# Altium footprint library SOCKET_CARD.PcbLib: 31 footprints (part 1 of 2)
Each footprint in its own frame and in the unit in brackets; x right, y up, seen from the top. Pads: shape width x height; smd on the part's side, far side on the other; paste and mask are expansions set on the pad; w line width, h text height; cw(c..) or ccw(c..) is an arc to the next point about the centre after c.
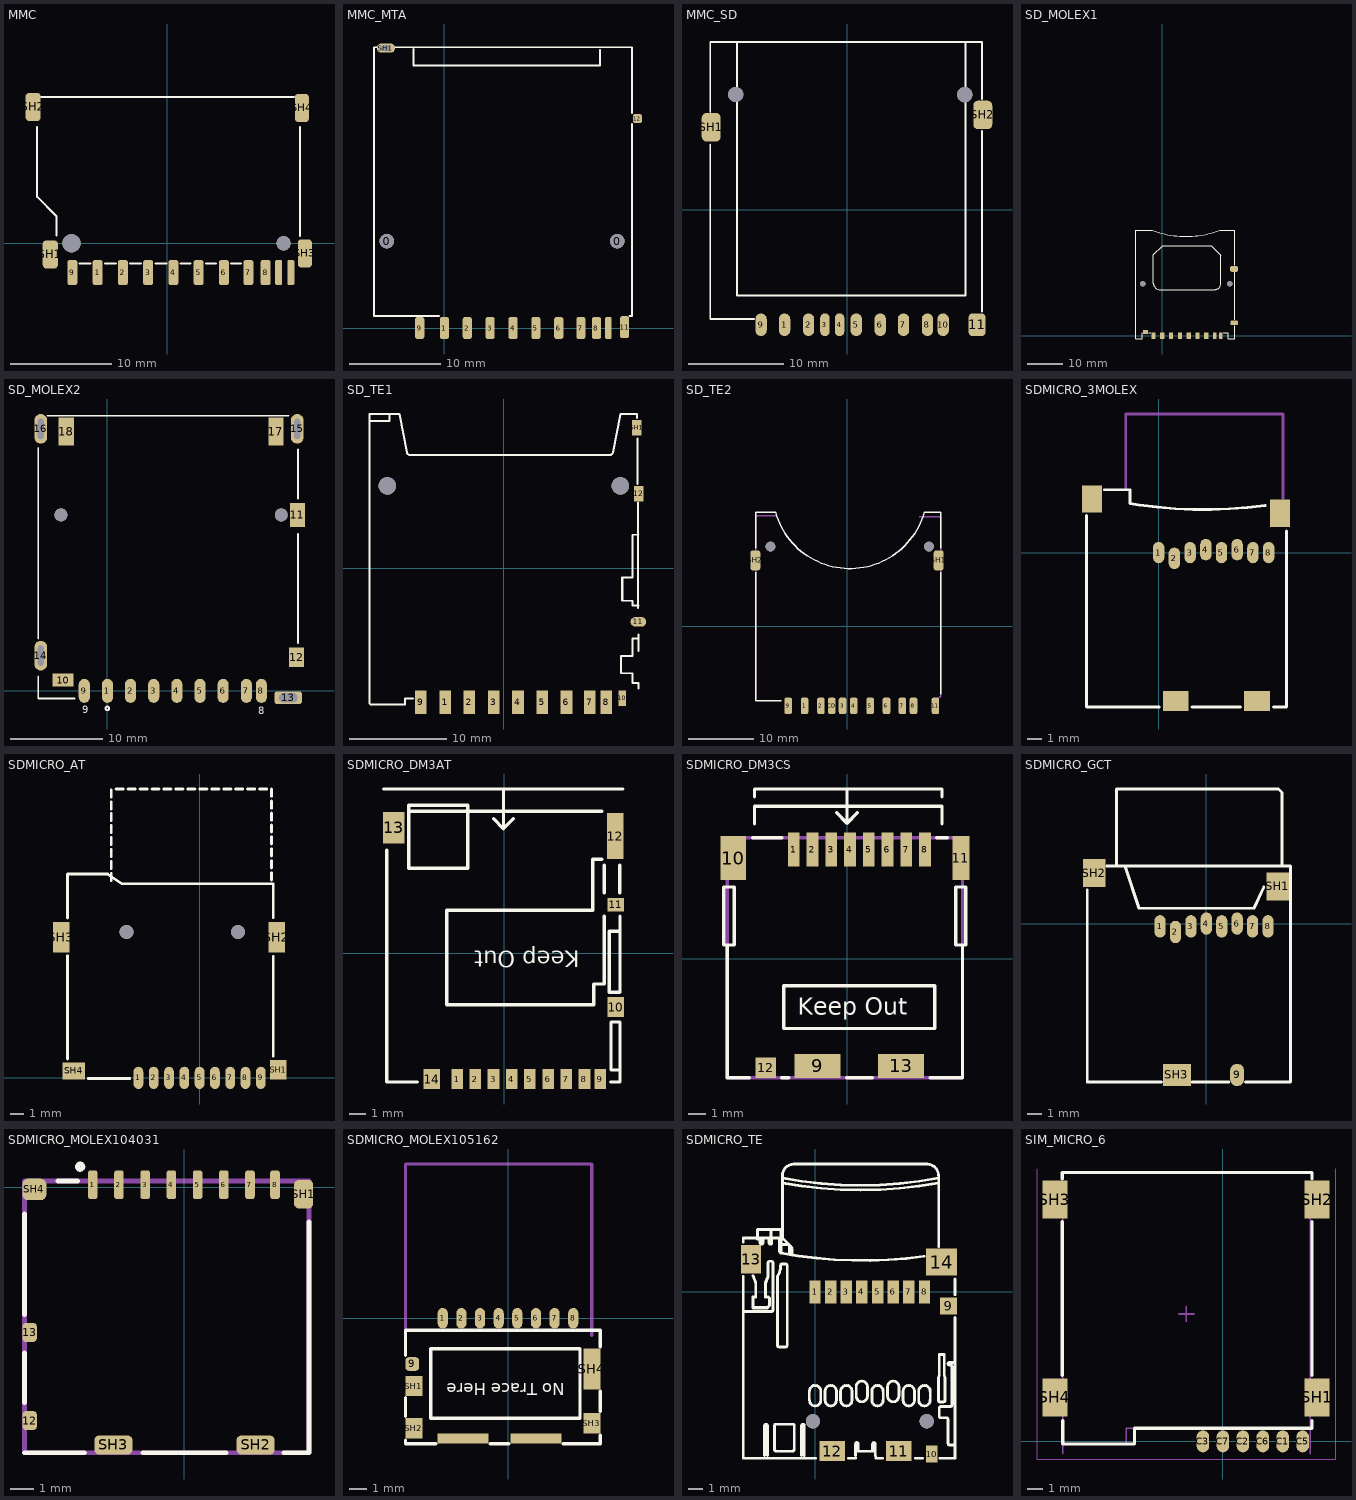
[diagram p0: the footprints below, top view; thin cyan lines are the x and y axes]

## MMC [mm]
height 2
pads (17):
  rrect50% 1x2.5 smd: 1(-6.915,-2.9) 2(-4.415,-2.9) 3(-1.915,-2.9) 4(0.585,-2.9) 5(3.085,-2.9) 6(5.585,-2.9) 7(8.01,-2.9) 8(9.71,-2.9) 9(-9.415,-2.9)
  rrect50% 0.7x2.5 smd: 10(11.01,-2.9) 11(12.21,-2.9)
  rrect50% 1.5x2.8 smd: SH1(-11.6,-1.1) SH2(-13.3,13.5)
  rrect50% 1.4x2.8 smd: SH3(13.6,-1) SH4(13.3,13.4)
  round 1.8 hole 1.8: ""(-9.5,0)
  round 1.4 hole 1.4 unplated: ""(11.5,0)
Top Overlay:
  lines w0.2: -12.9,11.506 -12.9,4.6 -11,2.7 -11,0.764 ; -12.5,14.5 12.5,14.5 ; -8.7,-2 -7.6,-2 ; -6.2,-2 -5.1,-2 ; -3.7,-2 -2.6,-2 ; -1.2,-2 -0.1,-2 ; 1.3,-2 2.3,-2 ; 3.8,-2 4.8,-2 ; 6.3,-2 7.3,-2 ; 13.1,0.711 13.1,11.506
3D body "SD card.stp": height 2.23, standoff 0.13, extent -11.8,1 12.2,33
3D body "693063020911.stp": height 2.95, standoff -0.6, extent -13.39,-3.285 13.61,14.465

## MMC_MTA [mm] "SD/MMC Morethanall SDC-W25PB-09"
pads (15):
  round 1.6 hole 1.6 unplated: 0(-6.3,9.5) 0(18.9,9.5)
  rrect50% 1x2.4 smd: 1(0,0) 2(2.5,0) 3(5,0) 4(7.5,0) 5(10,0) 6(12.5,0) 7(14.925,0) 8(16.625,0) 9(-2.7,0) 11(19.7,0.1)
  rrect50% 0.7x2.4 smd: 10(17.925,0)
  rrect50% 1x1 smd: 12(21.1,22.9)
  oval 2x1 hole 0.6 slot 1 at 0 deg: SH1(-6.4,30.6)
Top Overlay:
  lines w0.2: -3.4,30.5 -3.4,28.7 17,28.7 17,30.4 ; -0.6,1.3 -7.7,1.3 -7.7,30.7 20.5,30.7 20.5,23.5 ; 20.2,1.3 20.5,1.3 20.5,22.3
3D body "User Library-SDC-W25PB-09.step": height 3.1, standoff -0.7, extent -7.62,-0.471 21.229,30.629

## MMC_SD [mm]
pads (15):
  oval 1.2x2.4 smd: 1(-6.575,-12.1) 2(-4.05,-12.1) 5(0.975,-12.1) 6(3.5,-12.1) 7(5.95,-12.1) 8(8.475,-12.1) 9(-9.05,-12.1) 10(10.125,-12.1)
  oval 1x2.4 smd: 3(-2.325,-12.1) 4(-0.775,-12.1)
  rrect50% 1.8x2.4 smd: 11(13.7,-12.1)
  rrect50% 2x3 smd: SH1(-14.3,8.7) SH2(14.3,10)
  round 1.6 hole 1.6 unplated: ""(-11.725,12.163) ""(12.4,12.138)
Top Overlay:
  lines w0.2: -14.4,6.9 -14.4,-11.5 -9.8,-11.5 ; -14.4,10.3 -14.4,17.7 14.2,17.7 14.2,11.7 ; -11.6,17.7 -11.6,-9 12.5,-9 12.5,17.6 ; 14.2,-10.7 14.2,8.3
3D body "SD MMC.stp": height 2.9, standoff -0.7, extent -14.295,-12.621 14.155,17.629

## SD_MOLEX1 [mm] "2.50mm Pitch, SD Memory Card Connector, Standard-Mount, Ultra Low Profile, with  PCB Locator, without Mylar, molex 676008001"
height 2
pads (14):
  rect 1.2x1.8 smd: 1(0,0) 2(2.5,0) 3(5,0) 4(7.5,0) 5(10,0) 6(12.5,0) 9(-2.5,0)
  rect 1x1.8 smd: 7(14.92,0) 8(16.608,0)
  rect 1.4x1.2 smd: 10(-4.8,1.1)
  rrect50% 2.2x1.6 smd: 11(20.38,18.974)
  rrect50% 2.2x1.2 smd: 12(20.4,3.7)
  round 1.5 hole 1.5 unplated: ""(-5.52,14.774) ""(19.18,14.774)
Top Overlay:
  lines w0.2: -5.7,0.9 -5.7,-0.8 -7.5,-0.8 -7.5,29.9 -2.838,29.9 ccw(c6.739,56.211) 16.315,29.9 ; -3.9,0.9 -3.3,0.9 ; 16.446,29.9 20.6,29.9 20.6,20 ; 17.3,0.9 18.73,0.9 18.73,-0.8 20.63,-0.8 20.63,2.9 ; 20.6,4.5 20.6,18 ; -2.5,14.9 ccw(c-0.7,14.9) -0.7,13.1 14.8,13.1 ccw(c14.8,14.9) 16.6,14.9 16.6,22.9 13.9,25.6 0.1,25.6 -2.5,23 -2.5,14.9
3D body "User Library-676008001.STEP": height 3, standoff -0.3, extent -7.397,-0.733 20.903,29.767

## SD_MOLEX2 [mm] "MOLEX_SD_67840"
height 0.7
pads (20):
  oval 1.2x2.6 smd: 1(0,0) 2(2.5,0) 3(5,0) 4(7.5,0) 5(10,0) 6(12.5,0) 7(15,0) 8(16.625,0) 9(-2.5,0)
  rect 2.286x1.397 smd: 10(-4.782,1.155)
  rect 1.6x2.591 smd: 11(20.525,19.003)
  rect 1.6x2.108 smd: 12(20.425,3.625)
  rrect50% 3x1.4 hole 1 slot 2 at 0 deg: 13(19.525,-0.747)
  oval 1.4x3.2 hole 0.6 slot 2.2 at 90 deg: 14(-7.2,3.8) 15(20.5,28.3) 16(-7.2,28.3)
  rect 1.651x2.997 smd: 17(18.201,28) 18(-4.451,28)
  round 1.4 hole 1.4 unplated: " "(-5.025,19.003) " "(18.775,19.003)
Top Overlay:
  circle w0.2: c0,-1.9 r0.2
  lines w0.203: -7.476,1.583 -7.476,-0.83 -3.539,-0.83 ; -7.476,5.647 -7.476,26.221 ; -6.46,29.713 19.575,29.713 ; 20.591,5.164 20.591,16.95 ; 20.591,20.76 20.591,26.094
  text "9" at -2.7,-2.4 h0.8
  text "8" at 16.3,-2.5 h0.8
3D body "678408001.stp": height 4.57, standoff -1.28, extent -7.45,-0.7 20.85,29.8

## SD_TE1 [mm] "SD CARD SOCKET, Push/Push, Top Mount, With Locating Post, part_number: 2013357-1"
height 1.7
pads (15):
  rect 1.2x2.4 smd: 1(-6.05,-13.8) 2(-3.55,-13.8) 3(-1.05,-13.8) 4(1.45,-13.8) 5(3.95,-13.8) 6(6.45,-13.8) 7(8.85,-13.8) 8(10.55,-13.8) 9(-8.55,-13.8)
  rect 0.8x1.6 smd: 10(12.2,-13.4)
  oval 1.6x1 smd: 11(13.85,-5.5)
  rect 1x1.6 smd: 12(13.9,7.7) SH1(13.7,14.5)
  round 1.8 hole 1.8 unplated: ""(-12,8.5) ""(12,8.5)
Top Overlay:
  lines w0.2: -13.85,-13.9 -13.85,15.9 ; -13.745,-14 -10.185,-14 -10.185,-13.405 -9.35,-13.405 ; -13.745,15.195 -11.785,15.195 -11.785,15.795 ; -13.745,15.9 -11.72,15.9 -10.845,15.9 ; -10.745,15.9 -9.995,11.939 -9.958,11.841 -9.892,11.764 -9.803,11.713 -9.7,11.695 ; -9.8,11.695 11.05,11.695 ; 10.95,11.695 11.053,11.713 11.142,11.764 11.208,11.841 11.245,11.939 11.995,15.9 ; 12.095,15.9 13.7,15.9 13.7,15.5 ; 12.21,-3.335 12.21,-0.935 ; 13.75,8.7 13.75,13.4 ; 13.8,-4.1 13.8,6.8 ; 13.85,-12.395 13.85,-11.805 ; 13.85,-8.505 13.85,-6.8 ; 13.855,-11.805 13.255,-11.805 13.255,-10.805 12.075,-10.805 12.075,-9.035 13.255,-9.035 13.255,-7.235 13.855,-7.235 ; 13.855,-3.835 13.255,-3.835 13.255,-3.335 12.175,-3.335 12.175,-0.935 13.255,-0.935 13.255,3.465 13.855,3.465
3D body "c-2013357-1-a-3d.stp": height 2.84, standoff -0.51, extent -13.74,-13.9 13.94,15.8

## SD_TE2 [mm] "TE 1734472"
pads (15):
  rrect50% 1.16x2.5 smd: 1(-6.48,-12.15) 2(-3.98,-12.15) 3(-0.68,-12.15) 4(1.03,-12.15) 5(3.53,-12.15) 6(6.03,-12.15) 7(8.45,-12.15) 8(10.15,-12.15) 9(-8.98,-12.15) 11(13.5,-12.15) CD(-2.33,-12.15)
  round 1.5 hole 1.5 unplated: MH1(12.5,12.15) MH2(-11.7,12.15)
  rrect50% 1.524x3.048 smd: SH1(14,10.05) SH2(-14,10.05)
Top Overlay:
  lines w0.2: -13.919,8.255 -13.919,-11.4 -10,-11.4 ; -13.919,11.938 -13.919,17.396 -10.915,17.396 ccw(c0.441,20.6) 11.799,17.4 14.275,17.4 14.275,11.938 ; 14.275,-10.414 14.275,8.255
Mechanical 13:
  lines w0.2: -13.919,-11.024 -13.919,16.662 -13.716,16.866 -10.871,16.866 ; 11.024,16.739 14.122,16.739 14.275,16.586 14.275,-10.684 13.813,-11.146
3D body "SD card.stp": height 2.23, standoff 0.13, extent -11.58,-10.395 12.42,21.605
3D body "c-1734472-1-a2-3d.stp": height 2.73, standoff -0.63, extent -14.3,-12.573 14.2,17.727

## SDMICRO_3MOLEX [mm] "MicroSD Socket (Molex 500873-080X) (3M 2908-05WB-MG)"
height 1.88
pads (12):
  oval 0.8x1.5 smd: 1(0,0) 2(1.1,-0.4) 3(2.2,0) 4(3.3,0.2) 5(4.4,0) 6(5.5,0.2) 7(6.6,0) 8(7.7,0)
  rect 1.4x1.9 smd: ""(-4.66,3.75) ""(8.49,2.75)
  rect 1.8x1.4 smd: ""(1.19,-10.4) ""(6.89,-10.4)
Top Overlay:
  lines w0.2: -5.06,2.6 -5.06,-10.8 0.04,-10.8 ; -3.8,4.4 -2,4.4 -2,3.436 -1.364,3.334 -0.109,3.179 1.161,3.066 2.416,3.024 3.686,3.01 4.955,3.066 6.211,3.151 7.466,3.306 ; 2.34,-10.8 5.74,-10.8 ; 8.04,-10.8 8.94,-10.8 8.94,1.5
Mechanical 13:
  lines w0.2: -2.3,4.4 -2.3,9.7 8.7,9.7 8.7,3.8
3D body "User Library-Micro_SD.step": height 1.15, standoff 0.17, extent -2.3,-9.1 8.7,5.9
3D body "5008730806.stp": height 1.85, standoff -0.05, extent -5.06,-10.9 8.94,4.301

## SDMICRO_AT [mm] "SDMICRO exist on Iran, Attend 112J-TDAR-R01 push-push"
height 1
pads (15):
  oval 0.7x1.6 smd: 1(-4.4,0) 2(-3.3,0) 3(-2.2,0) 4(-1.1,0) 5(0,0) 6(1.1,0) 7(2.2,0) 8(3.3,0) 9(4.4,0)
  rect 1.2x1.4 smd: SH1(5.65,0.6)
  rect 1.2x2.2 smd: SH2(5.55,10.1) SH3(-9.95,10.1)
  rect 1.6x1.2 smd: SH4(-9.05,0.5)
  round 1 hole 1 unplated: ""(-5.25,10.5) ""(2.75,10.5)
Top Overlay:
  lines w0.2: -9.5,1.35 -9.5,8.78 ; -9.5,11.5 -9.5,14.65 -6.609,14.65 -5.599,13.95 5.3,13.95 5.3,11.51 ; -8,-0.05 -5.02,-0.05 ; -6.36,14.18 -6.36,14.7 ; -6.36,15.04 -6.36,15.56 ; -6.36,15.9 -6.36,16.42 ; -6.36,16.76 -6.36,17.28 ; -6.36,17.62 -6.36,18.14 ; -6.36,18.48 -6.36,19 ; -6.36,19.34 -6.36,19.86 ; -6.36,20.2 -6.36,20.72 ; -6.01,20.77 -5.49,20.77 ; -5.15,20.77 -4.63,20.77 ; -4.29,20.77 -3.77,20.77 ; -3.43,20.77 -2.91,20.77 ; -2.57,20.77 -2.05,20.77 ; -1.71,20.77 -1.19,20.77 ; -0.85,20.77 -0.33,20.77 ; 0.01,20.77 0.53,20.77 ; 0.87,20.77 1.39,20.77 ; 1.73,20.77 2.25,20.77 ; 2.59,20.77 3.11,20.77 ; 3.45,20.77 3.97,20.77 ; 4.31,20.77 4.83,20.77 ; 5.17,14.23 5.17,14.75 ; 5.17,15.09 5.17,15.61 ; 5.17,15.95 5.17,16.47 ; 5.17,16.81 5.17,17.33 ; 5.17,17.67 5.17,18.19 ; 5.17,18.53 5.17,19.05 ; 5.17,19.39 5.17,19.91 ; 5.17,20.25 5.17,20.77 ; 5.3,1.55 5.3,8.75
3D body "User Library-Micro_SD.step": height 1.15, standoff 0.17, extent -6.176,4.071 4.824,19.071
3D body "112J-TXAR-R_C_1.stp": height 1.85, standoff -0.6, extent -10.2,-0.452 5.9,14.55

## SDMICRO_DM3AT [mm]
pads (14):
  rect 0.7x1.2 smd: 1(-2.85,-7.6) 2(-1.75,-7.6) 3(-0.65,-7.6) 4(0.45,-7.6) 5(1.55,-7.6) 6(2.65,-7.6) 7(3.75,-7.6)
  rect 0.7x1.2 smd mask+0.07: 8(4.85,-7.6) 9(5.8,-7.6)
  rect 1x1.2 smd: 10(6.75,-3.25) 14(-4.4,-7.6)
  rect 1x0.8 smd: 11(6.75,2.95)
  rect 1x2.8 smd: 12(6.7,7.1)
  rect 1.3x1.9 smd: 13(-6.7,7.6)
Top Overlay:
  lines w0.2: -7.295,9.945 7.183,9.945 ; -7.1,6.25 -7.1,-7.781 -5.263,-7.781 ; -5.771,8.602 5.913,8.602 ; -0.65,8.15 -0.05,7.55 ; -0.05,9.9 -0.05,7.55 ; 0.55,8.15 -0.05,7.55 ; 5.905,5.695 5.35,5.695 5.35,2.61 -3.485,2.61 -3.485,-3.105 5.405,-3.105 5.405,-1.85 6.05,-1.85 6.05,2.25 ; 6.05,3.65 6.05,5.35 ; 6.421,-7.781 7,-7.781 7,-4.15 6.45,-4.15 6.45,-7.05 7,-7.05 ; 6.983,3.65 6.983,5.35 ; 7,1.34 6.36,1.34 6.35,1.34 6.35,-2.35 7,-2.35 7,2.25 ; -5.771,5.15 -2.215,5.15 -2.215,8.96 -5.771,8.96 -5.771,5.15
  text "Keep Out" at 4.55,0.15 h1
Mechanical 29:
  text ".Designator" at 0.55,-6.65 h1.52
3D body "DM3AT-SF-PEJM5.stp": height 1.68, standoff 0, extent -7,-7.65 6.85,8.5

## SDMICRO_DM3CS [mm]
pads (13):
  rect 0.7x2 smd: 1(-3.125,6.4) 2(-2.025,6.4) 3(-0.925,6.4) 4(0.175,6.4) 5(1.275,6.4) 6(2.375,6.4) 7(3.475,6.4) 8(4.575,6.4)
  rect 2.7x1.4 smd: 9(-1.725,-6.3) 13(3.175,-6.3)
  rect 1.5x2.6 smd: 10(-6.675,5.9)
  rect 1x2.6 smd: 11(6.675,5.9)
  rect 1.2x1.2 smd: 12(-4.775,-6.4)
Top Overlay:
  lines w0.2: -7.025,0.8 -7.025,-7 -5.725,-7 ; -5.525,7.1 -3.825,7.1 ; -5.425,7.9 -5.425,8.95 5.575,8.95 5.575,7.9 ; -5.425,9.5 -5.425,9.95 5.575,9.95 5.575,9.5 ; -3.825,-7 -3.425,-7 ; -0.6,8.55 0,7.95 ; -0.025,-7 1.475,-7 ; 0,9.95 0,7.95 ; 0.6,8.55 0,7.95 ; 4.875,-7 6.775,-7 6.775,0.8 ; 5.275,7.1 5.875,7.1 ; -7.225,0.8 -7.225,4.2 -6.625,4.2 -6.625,0.8 -7.225,0.8 ; -3.7,-4.1 -3.7,-1.6 5.15,-1.6 5.15,-4.1 -3.7,-4.1 ; 6.375,0.8 6.975,0.8 6.975,4.2 6.375,4.2 6.375,0.8
  text "Keep Out" at -2.9,-3.3 h1
Mechanical 16:
  lines w0.2: -7.025,-7 6.775,-7 6.775,7.1 -7.025,7.1 -7.025,-7
Mechanical 29:
  text ".Designator" at 0.6,-2.3 h1.52
3D body "DM3CS-SF.stp": height 1.98, standoff 0.05, extent -7.025,-7 6.775,7.1

## SDMICRO_GCT [mm] "micro SD, GCT MEM2050"
height 1
pads (12):
  oval 0.8x1.6 smd: 1(-3.3,-0.2) 2(-2.2,-0.6) 3(-1.1,-0.2) 4(0,0) 5(1.1,-0.2) 6(2.2,0) 7(3.3,-0.2) 8(4.4,-0.2)
  oval 1x1.6 smd: 9(2.2,-10.8)
  rect 1.6x2 smd: SH1(5.1,2.65) SH2(-8,3.6)
  rect 2x1.6 smd: SH3(-2.1,-10.8)
Top Overlay:
  lines w0.2: -8.5,2.4 -8.5,-11.3 -3.2,-11.3 ; -7.1,4.1 6,4.1 6,-11.3 2.8,-11.3 ; -6.4,4.1 -6.4,9.6 5.15,9.6 5.4,9.35 5.4,4.125 ; -5.8,4.1 -4.8,1.1 3.4,1.1 4.1,2.6 ; -1,-11.3 1.6,-11.3
3D body "User Library-MEM2050.STEP": height 1.9, standoff 0, extent -8.4,-11.2 5.85,4

## SDMICRO_MOLEX104031 [mm] "MicroSD Socket Molex 104031-0811"
pads (14):
  rrect50% 0.4x1.2 smd paste+0: 1(-3.85,0.1) 2(-2.75,0.1) 3(-1.65,0.1) 4(-0.55,0.1) 5(0.55,0.1) 6(1.65,0.1) 7(2.75,0.1) 8(3.8,0.1)
  rrect50% 0.6x0.8 smd: 12(-6.5,-9.8) 13(-6.5,-6.1)
  rrect50% 0.8x1.2 smd: SH1(5,-0.3)
  rrect50% 1.6x0.8 smd: SH2(2.985,-10.825) SH3(-2.985,-10.825)
  rrect50% 1x0.9 smd: SH4(-6.3,-0.1)
Top Overlay:
  circle w0.2: c-4.379,0.855 r0.113
  lines w0.2: -6.72,-11.15 -4.2,-11.15 ; -6.72,-9.047 -6.72,-6.966 ; -6.72,-5.351 -6.72,-1.117 ; -5.305,0.25 -4.484,0.25 ; -1.745,-11.15 1.755,-11.15 ; 4.169,-11.15 5.23,-11.15 5.23,-1.471
Mechanical 15:
  lines w0.2: -6.72,-11.15 5.23,-11.15 5.23,0.25 -6.72,0.25 -6.72,-11.15
3D body "1040310811.stp": height 1.42, standoff -0.03, extent -6.713,-11.098 5.238,0.302
3D body "User Library-Micro_SD.step": height 1.15, standoff 0.17, extent -6.276,-10.881 4.724,4.119

## SDMICRO_MOLEX105162 [mm] "MicroSD Socket Molex 105162"
height 1.88
pads (15):
  oval 0.6x1.2 smd: 1(-3.85,0) 2(-2.75,0) 3(-1.65,0) 4(-0.55,0) 5(0.55,0) 6(1.65,0) 7(2.75,0) 8(3.85,0)
  rrect50% 0.8x0.8 smd: 9(-5.65,-2.7)
  rect 1x1.2 smd: SH1(-5.55,-4) SH2(-5.55,-6.5) SH3(4.95,-6.2)
  rect 1x2.4 smd: SH4(4.95,-3)
  rect 3x0.6 smd: ""(-2.65,-7.1) ""(1.65,-7.1)
Top Overlay:
  lines w0.2: -6.05,-7.2 -6.05,-7.4 -4.25,-7.4 ; -6.05,-5.8 -6.05,-4.7 ; -6.05,-2.2 -6.05,-0.7 5.45,-0.7 5.45,-1.7 ; -1.05,-7.4 0.05,-7.4 ; 3.25,-7.4 5.45,-7.4 5.45,-6.9 ; 5.45,-5.5 5.45,-4.3 ; -4.55,-5.9 4.25,-5.9 4.25,-1.8 -4.55,-1.8 -4.55,-5.9
  text "No Trace Here" at 3.35,-3.6 h1.2
Mechanical 13:
  lines w0.2: -6.05,-1 -6.05,9.1 4.95,9.1 4.95,-1
3D body "1051620001.stp": height 1.43, standoff -0.02, extent -5.95,-7.3 5.35,0.3
3D body "User Library-Micro_SD.step": height 1.15, standoff 0.17, extent -6.15,-6 4.85,9

## SDMICRO_TE [mm] "SD CARD SOCKET, Micro, Push/Push, Top Mount, With Locating Post, TE 1871602-2"
height 1.7
pads (16):
  rect 0.8x1.6 smd mask+0.1: 1(0,0) 2(1.1,0) 3(2.2,0) 4(3.3,0) 5(4.4,0) 6(5.5,0) 7(6.6,0) 8(7.7,0)
  rect 1.2x1.2 smd mask+0.1: 9(9.4,-1)
  rect 0.8x1.2 smd mask+0.1: 10(8.2,-11.4)
  rect 1.8x1.4 smd mask+0.1: 11(5.9,-11.2) 12(1.2,-11.2)
  rect 1.4x2 smd mask+0.1: 13(-4.5,2.3)
  rect 2.2x1.9 smd mask+0.1: 14(8.9,2.1)
  round 1 hole 1 unplated mask+0.1: ""(-0.15,-9.1) ""(7.85,-9.1)
Top Overlay:
  drawing of 377 lines, arcs and shapes, not listed
3D body "c-1871602-02-b-3d.stp": height 1.91, standoff -0.21, extent -4.902,-11.65 9.698,4.35

## SIM_MICRO_6 [mm] "Micro SIM Card Connector, 6 Pin"
height 1.5
pads (10):
  oval 0.8x1.4 smd: C1(3.81,0) C2(1.27,0) C3(-1.27,0) C5(5.08,0) C6(2.54,0) C7(0,0)
  rect 1.6x2.4 smd: SH1(6,2.8) SH2(6,15.4) SH3(-10.7,15.4) SH4(-10.7,2.8)
Top Overlay:
  lines w0.2: -10.225,4.215 -10.225,14.015 ; -10.225,16.715 -10.225,17.115 5.675,17.115 5.675,16.715 ; -10.2,1.315 -10.2,-0.165 -5.625,-0.165 -5.625,0.845 5.675,0.845 5.675,1.315 ; 5.675,4.215 5.675,14.015
Mechanical 13:
  lines w0.1: -10.2,-0.775 -10.2,15.385 ; -10.2,-0.165 -6.165,-0.165 -6.165,0.845 5.55,0.845 ; 5.55,-0.775 5.55,16.395
Mechanical 15:
  lines w0.05: -11.825,17.365 -11.825,-1.135 ; 7.175,17.365 7.175,-1.135 ; -11.825,-1.135 7.175,-1.135 ; -11.825,-1.135 7.175,-1.135
  lines w0.1: -2.825,8.115 -1.825,8.115 ; -2.325,7.615 -2.325,8.615
Multi-Layer:
  pour cut-out: -6.94,17.005 -10.03,17.005 -10.03,0.005 -6.94,0.005
  pour cut-out: -3.41,16.525 -3.41,12.945 -1.71,12.945 -1.71,16.525
  pour cut-out: -0.87,16.525 -0.87,12.945 0.83,12.945 0.83,16.525
  pour cut-out: 1.67,16.525 1.67,12.945 3.37,12.945 3.37,16.525
  pour cut-out: -3.26,9.145 -1.86,9.145 -1.86,5.205 -3.26,5.205
  pour cut-out: -0.72,9.145 0.68,9.145 0.68,5.205 -0.72,5.205
  pour cut-out: 1.82,9.145 3.22,9.145 3.22,5.205 1.82,5.205
3D body "sim7100-8-1-15-00-a_reva.step": height 1.47, standoff -0.03, extent -10.7,-0.325 6.05,17.005